# Altium schematic symbol library CL21C270JCANNNC.SchLib: 1 symbol
Pins are listed as number, name and electrical type; pins without a type are passive.

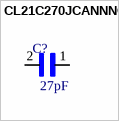
[diagram p0: symbol CL21C270JCANNNC]

## CL21C270JCANNNC
designator C?  Capacitance: 27pF  (hidden comment: *)
CL21 Series 27 pF 100 V ±5 % Tolerance C0G SMT Multilayer Ceramic Capacitor; Manufacturer: Samsung; MP: CL21C270JCANNNC; Tolerance: 5%; Voltage Rating: 100V; Temperature Coefficient: 300ppm/°C; Package: None; Price: None; Value: *; Availability: Unavailable; Supplier 1: Digi-Key; Manufacturer Part Number: CL21C270JCANNNC; RoHS: Yes; Category: Ceramic Capacitors; Stock 1: 133925; Pricing 1: 1=0.10000, 10=0.05700, 50=0.03100, 100=0.02520, 500=0.01802, 1000=0.01417 (USD); Mount: Surface Mount; Case/Package: 0805; Case Code (Metric): 2012; Case Code (Imperial): 0805; Min Operating Temperature: -55°C; Max Operating Temperature: 125°C; Dielectric: C0G; Packaging: Tape and Reel; Package Quantity: 1; Voltage: 100V; Voltage Rating (DC): 100V; Series: CL; Construction: Flat; Length: 2mm; Width: 0.049inch; Height: 0.65mm; Depth: 1.25mm; Thickness: 0.03inch; Radiation Hardening: No; Lead Free: Lead Free; RoHS Compliant: Yes; ComponentLink1URL: https://datasheet.ciiva.com/25740/cl21c270jcannnc-25740793.pdf?src-supplier=Digi-Key; ComponentLink1Description: https://datasheet.ciiva.com/25740/cl21c270jcannnc-25740793.pdf?src-supplier=Digi-Key; Supplier Part Number 1: 1276-2622-1-ND
footprint CAPC2012X140N
pins: 1, 2